# EAGLE library part ORIGINGPS_ORG1510 (library FaBo-GPS)
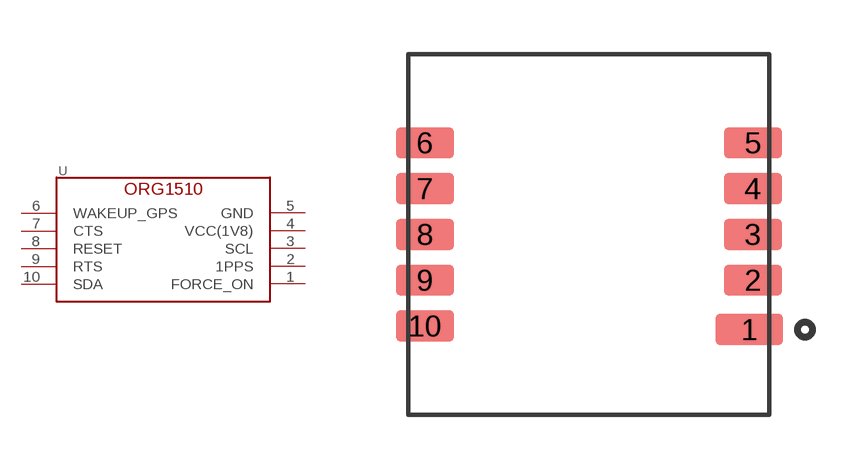
[diagram p0: symbol with the pads of ORIGINGPS_ORG1510; footprint ORIGINGPS_ORG1510]

Designator prefix U

## ORIGINGPS_ORG1510  [ORIGINGPS_ORG1510]
1  FORCE_ON
2  1PPS
3  SCL
4  VCC(1V8)
5  GND
6  WAKEUP_GPS
7  CTS
8  RESET
9  RTS
10  SDA

## Footprint ORIGINGPS_ORG1510 (pad centres in mm)
smd 1.874 x 0.864: 1 4.454,-2.64
smd 1.6 x 0.864: 2 4.554,-1.27; 3 4.554,0; 4 4.554,1.27; 5 4.554,2.54; 6 -4.536,2.54; 7 -4.536,1.27; 8 -4.536,0; 9 -4.536,-1.27; 10 -4.536,-2.54